# EAGLE library part PROG-JIG-LITE (library shrew-core)
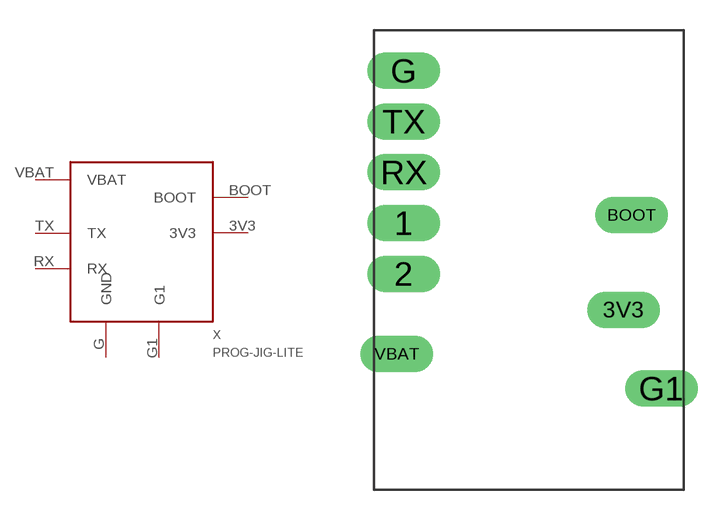
[diagram p8: symbol with the pads of PROG-JIG-LITE; footprint PROG-JIG-LITE]

Designator prefix X

## PROG-JIG-LITE  [PROG-JIG-LITE]
3V3  3V3
BOOT  BOOT
G  GND
G1  G1
RX  RX
TX  TX
VBAT  VBAT

## Footprint PROG-JIG-LITE (pad centres in mm)
drill 0.6 pad 1.829 long: 1 1.5,13.34; 2 1.5,10.8; 3V3 12.5,9; BOOT 12.9,13.75; G 1.5,20.96; G1 14.39,5.06; RX 1.5,15.88; TX 1.5,18.42; VBAT 1.16,6.8